# Altium schematic symbol library Sensor_Touch.SchLib: 24 symbols
Pins are listed as number, name and electrical type; pins without a type are passive.

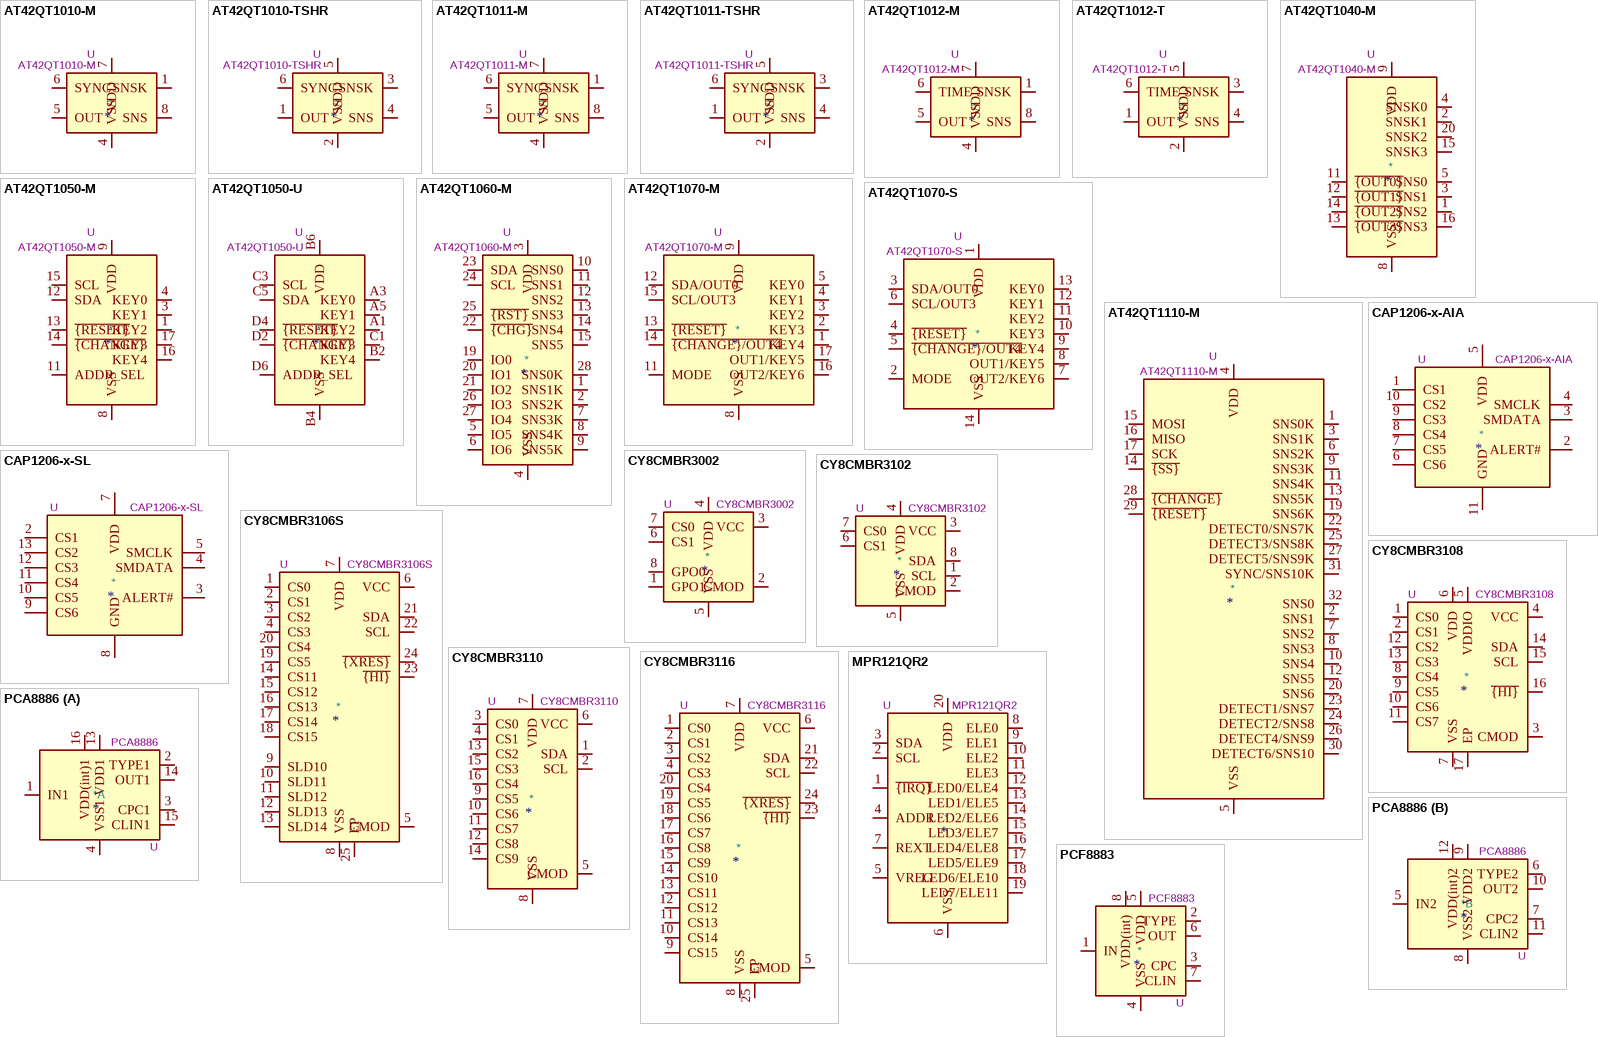
[diagram p0: symbols AT42QT1010-M to PCF8883]

## AT42QT1010-M
designator *  value AT42QT1010-M  Reference: U
ki_keywords: Touch QTouch Sensor Key; ki_description: Single-key Touch Sensor, UDFN-8; ki_fp_filters: DFN*1EP*2x2mm*P0.5mm*; Footprint: Package_DFN_QFN:DFN-8-1EP_2x2mm_P0.5mm_EP0.9x1.5mm; Datasheet: http://ww1.microchip.com/downloads/en/DeviceDoc/40001946A.pdf
pins: 1 SNSK, 2 NC hidden, 3 NC hidden, 4 VSS, 5 OUT, 6 SYNC, 7 VDD, 8 SNS, 9 VSS hidden

## AT42QT1010-TSHR
designator *  value AT42QT1010-TSHR  Reference: U
ki_keywords: Touch QTouch Sensor Key; ki_description: Single-key Touch Sensor, SOT-23-6; ki_fp_filters: SOT?23*; Footprint: Package_TO_SOT_SMD:SOT-23-6; Datasheet: http://ww1.microchip.com/downloads/en/DeviceDoc/40001946A.pdf
pins: 1 OUT, 2 VSS, 3 SNSK, 4 SNS, 5 VDD, 6 SYNC

## AT42QT1011-M
designator *  value AT42QT1011-M  Reference: U
ki_keywords: Touch QTouch Sensor Key; ki_description: Single-key Touch Sensor, UDFN-8; ki_fp_filters: DFN*1EP*2x2mm*P0.5mm*; Footprint: Package_DFN_QFN:DFN-8-1EP_2x2mm_P0.5mm_EP0.9x1.5mm; Datasheet: http://ww1.microchip.com/downloads/en/DeviceDoc/40001947A.pdf
pins: 1 SNSK, 2 NC hidden, 3 NC hidden, 4 VSS, 5 OUT, 6 SYNC, 7 VDD, 8 SNS, 9 VSS hidden

## AT42QT1011-TSHR
designator *  value AT42QT1011-TSHR  Reference: U
ki_keywords: Touch QTouch Sensor Key; ki_description: Single-key Touch Sensor, SOT-23-6; ki_fp_filters: SOT?23*; Footprint: Package_TO_SOT_SMD:SOT-23-6; Datasheet: http://ww1.microchip.com/downloads/en/DeviceDoc/40001947A.pdf
pins: 1 OUT, 2 VSS, 3 SNSK, 4 SNS, 5 VDD, 6 SYNC

## AT42QT1012-M
designator *  value AT42QT1012-M  Reference: U
ki_keywords: Touch QTouch Sensor Key; ki_description: Single-Key Touch Sensor IC, UDFN-8; ki_fp_filters: DFN*1EP*2x2mm*P0.5mm*; Footprint: Package_DFN_QFN:DFN-8-1EP_2x2mm_P0.5mm_EP0.9x1.5mm; Datasheet: http://ww1.microchip.com/downloads/en/DeviceDoc/40001948A.pdf
pins: 1 SNSK, 2 NC hidden, 3 NC hidden, 4 VSS, 5 OUT, 6 TIME, 7 VDD, 8 SNS, 9 VSS hidden

## AT42QT1012-T
designator *  value AT42QT1012-T  Reference: U
ki_keywords: Touch QTouch Sensor Key; ki_description: Single-Key Touch Sensor IC, SOT-23-6; ki_fp_filters: SOT?23*; Footprint: Package_TO_SOT_SMD:SOT-23-6; Datasheet: http://ww1.microchip.com/downloads/en/DeviceDoc/40001948A.pdf
pins: 1 OUT, 2 VSS, 3 SNSK, 4 SNS, 5 VDD, 6 TIME

## AT42QT1040-M
designator *  value AT42QT1040-M  Reference: U
ki_keywords: Touch QTouch Sensor Key; ki_description: Four-key Touch Sensor IC, VQFN-20; ki_fp_filters: VQFN*1EP*3x3mm*P0.45mm*; Footprint: Package_DFN_QFN:VQFN-20-1EP_3x3mm_P0.45mm_EP1.55x1.55mm; Datasheet: http://ww1.microchip.com/downloads/en/DeviceDoc/Atmel-9524-AT42-QTouch-BSW-AT42QT1040_Datasheet.pdf
pins: 1 SNS2, 2 SNSK1, 3 SNS1, 4 SNSK0, 5 SNS0, 6 NC hidden, 7 NC hidden, 8 VSS, 9 VDD, 10 NC hidden, 11 ~{{OUT0}}, 12 ~{{OUT1}}, 13 ~{{OUT3}}, 14 ~{{OUT2}}, 15 SNSK3, 16 SNS3, 17 NC hidden, 18 NC hidden, 19 NC hidden, 20 SNSK2, 21 VSS hidden

## AT42QT1050-M
designator *  value AT42QT1050-M  Reference: U
ki_keywords: Touch QTouch Sensor Key; ki_description: Five-Key Touch Sensor, VQFN-20; ki_fp_filters: VQFN*1EP*3x3mm*P0.45mm*; Footprint: Package_DFN_QFN:VQFN-20-1EP_3x3mm_P0.45mm_EP1.55x1.55mm; Datasheet: http://ww1.microchip.com/downloads/en/DeviceDoc/Atmel-9707-AT42-QTouch-BSW-AT42QT1050_Datasheet.pdf
pins: 1 KEY2, 2 NC hidden, 3 KEY1, 4 KEY0, 5 NC hidden, 6 NC hidden, 7 NC hidden, 8 VSS, 9 VDD, 10 NC hidden, 11 ADDR_SEL, 12 SDA, 13 ~{{RESET}}, 14 ~{{CHANGE}}, 15 SCL, 16 KEY4, 17 KEY3, 18 NC hidden, 19 NC hidden, 20 NC hidden, 21 VSS hidden

## AT42QT1050-U
designator *  value AT42QT1050-U  Reference: U
ki_keywords: Touch QTouch Sensor Key; ki_description: Five-Key Touch Sensor, WLCSP-12; ki_fp_filters: WLCSP*1.403x1.555mm*P0.4mm*; Footprint: Package_CSP:WLCSP-12_1.403x1.555mm_P0.4mm_Stagger; Datasheet: http://ww1.microchip.com/downloads/en/DeviceDoc/Atmel-9707-AT42-QTouch-BSW-AT42QT1050_Datasheet.pdf
pins: A1 KEY2, A3 KEY0, A5 KEY1, B2 KEY4, B4 VSS, B6 VDD, C1 KEY3, C3 SCL, C5 SDA, D2 ~{{CHANGE}}, D4 ~{{RESET}}, D6 ADDR_SEL

## AT42QT1060-M
designator *  value AT42QT1060-M  Reference: U
ki_keywords: Touch QTouch Sensor Key; ki_description: Six-Key Touch Sensor IC, VQFN-28; ki_fp_filters: VQFN*1EP*4x4mm*P0.45mm*; Footprint: Package_DFN_QFN:VQFN-28-1EP_4x4mm_P0.45mm_EP2.4x2.4mm; Datasheet: http://ww1.microchip.com/downloads/en/DeviceDoc/Atmel-9505-AT42-QTouch-BSW-AT42QT1060_Datasheet.pdf
pins: 1 SNS1K, 2 SNS2K, 3 VDD, 4 VSS, 5 IO5, 6 IO6, 7 SNS3K, 8 SNS4K, 9 SNS5K, 10 SNS0, 11 SNS1, 12 SNS2, 13 SNS3, 14 SNS4, 15 SNS5, 16 VDD hidden, 17 VDD hidden, 18 VSS hidden, 19 IO0, 20 IO1, 21 IO2, 22 ~{{CHG}}, 23 SDA, 24 SCL, 25 ~{{RST}}, 26 IO3, 27 IO4, 28 SNS0K, 29 VSS hidden

## AT42QT1070-M
designator *  value AT42QT1070-M  Reference: U
ki_keywords: Touch QTouch Sensor Key; ki_description: Seven-key Touch Sensor IC, VQFN-20; ki_fp_filters: VQFN*1EP*3x3mm*P0.45mm*; Footprint: Package_DFN_QFN:VQFN-20-1EP_3x3mm_P0.45mm_EP1.55x1.55mm; Datasheet: http://ww1.microchip.com/downloads/en/DeviceDoc/Atmel-9596-AT42-QTouch-BSW-AT42QT1070_Datasheet.pdf
pins: 1 KEY4, 2 KEY3, 3 KEY2, 4 KEY1, 5 KEY0, 6 NC hidden, 7 NC hidden, 8 VSS, 9 VDD, 10 NC hidden, 11 MODE, 12 SDA/OUT0, 13 ~{{RESET}}, 14 ~{{CHANGE}/OUT4}, 15 SCL/OUT3, 16 OUT2/KEY6, 17 OUT1/KEY5, 18 NC hidden, 19 NC hidden, 20 NC hidden, 21 VSS hidden

## AT42QT1070-S
designator *  value AT42QT1070-S  Reference: U
ki_keywords: Touch QTouch Sensor Key; ki_description: Seven-key Touch Sensor IC, SOIC-14; ki_fp_filters: SOIC*3.9x8.7mm*P1.27mm*; Footprint: Package_SO:SOIC-14_3.9x8.7mm_P1.27mm; Datasheet: http://ww1.microchip.com/downloads/en/DeviceDoc/Atmel-9596-AT42-QTouch-BSW-AT42QT1070_Datasheet.pdf
pins: 1 VDD, 2 MODE, 3 SDA/OUT0, 4 ~{{RESET}}, 5 ~{{CHANGE}/OUT4}, 6 SCL/OUT3, 7 OUT2/KEY6, 8 OUT1/KEY5, 9 KEY4, 10 KEY3, 11 KEY2, 12 KEY1, 13 KEY0, 14 VSS

## AT42QT1110-M
designator *  value AT42QT1110-M  Reference: U
ki_keywords: Touch QTouch Sensor Key; ki_description: 11-Key Touch Sensor IC, VQFN-32; ki_fp_filters: VQFN*1EP*5x5mm*P0.5mm*; Footprint: Package_DFN_QFN:VQFN-32-1EP_5x5mm_P0.5mm_EP3.1x3.1mm; Datasheet: http://ww1.microchip.com/downloads/en/DeviceDoc/Atmel-9520-AT42-QTouch-BSW-AT42QT1110_Datasheet.pdf
pins: 1 SNS0K, 2 SNS1, 3 SNS1K, 4 VDD, 5 VSS, 6 SNS2K, 7 SNS2, 8 SNS3, 9 SNS3K, 10 SNS4, 11 SNS4K, 12 SNS5, 13 SNS5K, 14 ~{{SS}}, 15 MOSI, 16 MISO, 17 SCK, 18 VDD hidden, 19 SNS6K, 20 SNS6, 21 VSS hidden, 22 DETECT0/SNS7K, 23 DETECT1/SNS7, 24 DETECT2/SNS8, 25 DETECT3/SNS8K, 26 DETECT4/SNS9, 27 DETECT5/SNS9K, 28 ~{{CHANGE}}, 29 ~{{RESET}}, 30 DETECT6/SNS10, 31 SYNC/SNS10K, 32 SNS0, 33 VSS hidden

## CAP1206-x-AIA
designator *  value CAP1206-x-AIA  Reference: U
ki_keywords: 6 Channel Capacitive Touch Sensor; ki_description: 6-Channel Capacitive Touch Sensor, DFN-10; ki_fp_filters: DFN*1EP*3x3mm*P0.5mm*; Footprint: Package_DFN_QFN:DFN-10-1EP_3x3mm_P0.5mm_EP1.55x2.48mm; Datasheet: http://ww1.microchip.com/downloads/en/DeviceDoc/00001567B.pdf
pins: 1 CS1, 2 ALERT#, 3 SMDATA, 4 SMCLK, 5 VDD, 6 CS6, 7 CS5, 8 CS4, 9 CS3, 10 CS2, 11 GND

## CAP1206-x-SL
designator *  value CAP1206-x-SL  Reference: U
ki_keywords: 6 Channel Capacitive Touch Sensor; ki_description: 6-Channel Capacitive Touch Sensor, SOIC-14; ki_fp_filters: SOIC?14*3.9x8.7mm*P1.27mm*; Footprint: Package_SO:SOIC-14_3.9x8.7mm_P1.27mm; Datasheet: http://ww1.microchip.com/downloads/en/DeviceDoc/00001567B.pdf
pins: 2 CS1, 3 ALERT#, 4 SMDATA, 5 SMCLK, 7 VDD, 8 GND, 9 CS6, 10 CS5, 11 CS4, 12 CS3, 13 CS2

## CY8CMBR3002
designator *  value CY8CMBR3002  Reference: U
ki_keywords: Touch Sensor 2ch; ki_description: CapSense Controller, 2 Sensors, SOIC-8; ki_fp_filters: SOIC*3.9x4.9mm*P1.27mm*; Footprint: Package_SO:SOIC-8_3.9x4.9mm_P1.27mm; Datasheet: http://www.cypress.com/?docID=49119
pins: 1 GPO1, 2 CMOD, 3 VCC, 4 VDD, 5 VSS, 6 CS1, 7 CS0, 8 GPO0

## CY8CMBR3102
designator *  value CY8CMBR3102  Reference: U
ki_keywords: Touch Sensor 2ch; ki_description: CapSense Controller, 2 Sensors, SOIC-8; ki_fp_filters: SOIC*3.9x4.9mm*P1.27mm*; Footprint: Package_SO:SOIC-8_3.9x4.9mm_P1.27mm; Datasheet: http://www.cypress.com/?docID=49119
pins: 1 SCL, 2 CMOD, 3 VCC, 4 VDD, 5 VSS, 6 CS1, 7 CS0, 8 SDA

## CY8CMBR3106S
designator *  value CY8CMBR3106S  Reference: U
ki_keywords: Touch Sensor 16ch Slider; ki_description: CapSense Controller, 16 Sensors w/ Slider, QFN-24+EP; ki_fp_filters: QFN*1EP*4x4mm*P0.5mm*; Footprint: Package_DFN_QFN:QFN-24-1EP_4x4mm_P0.5mm_EP2.6x2.6mm; Datasheet: http://www.cypress.com/?docID=49119
pins: 1 CS0, 2 CS1, 3 CS2, 4 CS3, 5 CMOD, 6 VCC, 7 VDD, 8 VSS, 9 SLD10, 10 SLD11, 11 SLD12, 12 SLD13, 13 SLD14, 14 CS11, 15 CS12, 16 CS13, 17 CS14, 18 CS15, 19 CS5, 20 CS4, 21 SDA, 22 SCL, 23 ~{{HI}}, 24 ~{{XRES}}, 25 EP

## CY8CMBR3108
designator *  value CY8CMBR3108  Reference: U
ki_keywords: Touch Sensor 8ch; ki_description: CapSense Controller, 8 Sensors, QFN-16+EP; ki_fp_filters: QFN*1EP*3x3mm*P0.5mm*; Footprint: Package_DFN_QFN:QFN-16-1EP_3x3mm_P0.5mm_EP1.8x1.8mm; Datasheet: http://www.cypress.com/?docID=49119
pins: 1 CS0, 2 CS1, 3 CMOD, 4 VCC, 5 VDDIO, 6 VDD, 7 VSS, 8 CS4, 9 CS5, 10 CS6, 11 CS7, 12 CS2, 13 CS3, 14 SDA, 15 SCL, 16 ~{{HI}}, 17 EP

## CY8CMBR3110
designator *  value CY8CMBR3110  Reference: U
ki_keywords: Touch Sensor 10ch; ki_description: CapSense Controller, 10 Sensors, SOIC-16; ki_fp_filters: SOIC*3.9x9.9mm*P1.27mm*; Footprint: Package_SO:SOIC-16_3.9x9.9mm_P1.27mm; Datasheet: http://www.cypress.com/?docID=49119
pins: 1 SDA, 2 SCL, 3 CS0, 4 CS1, 5 CMOD, 6 VCC, 7 VDD, 8 VSS, 9 CS5, 10 CS6, 11 CS7, 12 CS8, 13 CS2, 14 CS9, 15 CS3, 16 CS4

## CY8CMBR3116
designator *  value CY8CMBR3116  Reference: U
ki_keywords: Touch Sensor 16ch; ki_description: CapSense Controller, 16 Sensors, QFN-24+EP; ki_fp_filters: QFN*1EP*4x4mm*P0.5mm*; Footprint: Package_DFN_QFN:QFN-24-1EP_4x4mm_P0.5mm_EP2.6x2.6mm; Datasheet: http://www.cypress.com/?docID=49119
pins: 1 CS0, 2 CS1, 3 CS2, 4 CS3, 5 CMOD, 6 VCC, 7 VDD, 8 VSS, 9 CS15, 10 CS14, 11 CS13, 12 CS12, 13 CS11, 14 CS10, 15 CS9, 16 CS8, 17 CS7, 18 CS6, 19 CS5, 20 CS4, 21 SDA, 22 SCL, 23 ~{{HI}}, 24 ~{{XRES}}, 25 EP

## MPR121QR2
designator *  value MPR121QR2  Reference: U
ki_keywords: Touch Sensor 12ch; ki_description: 12ch Touch Sensor controller, UQFN-20; ki_fp_filters: UQFN*3x3mm*P0.4mm*; Footprint: Package_DFN_QFN:UQFN-20_3x3mm_P0.4mm; Datasheet: https://resurgentsemi.com/wp-content/uploads/2018/09/MPR121_rev5-Resurgent.pdf?d453f8&d453f8
pins: 1 ~{{IRQ}}, 2 SCL, 3 SDA, 4 ADDR, 5 VREG, 6 VSS, 7 REXT, 8 ELE0, 9 ELE1, 10 ELE2, 11 ELE3, 12 LED0/ELE4, 13 LED1/ELE5, 14 LED2/ELE6, 15 LED3/ELE7, 16 LED4/ELE8, 17 LED5/ELE9, 18 LED6/ELE10, 19 LED7/ELE11, 20 VDD

## PCA8886
designator *  value PCA8886  Reference: U
ki_keywords: NXP capacitive touch sensor auto-calibration; ki_description: Dual capacitive touch/proximity switch with auto-calibration, TSSOP-16; ki_fp_filters: TSSOP*4.4x5mm*P0.65mm*; Footprint: Package_SO:TSSOP-16_4.4x5mm_P0.65mm; Datasheet: http://www.nxp.com/docs/en/data-sheet/PCA8886.pdf
part A pins: 1 IN1, 2 TYPE1, 3 CPC1, 4 VSS1, 13 VDD1, 14 OUT1, 15 CLIN1, 16 VDD(int)1
part B pins: 5 IN2, 6 TYPE2, 7 CPC2, 8 VSS2, 9 VDD2, 10 OUT2, 11 CLIN2, 12 VDD(int)2

## PCF8883
designator *  value PCF8883  Reference: U
ki_keywords: NXP capacitive touch sensor auto-calibration; ki_description: Capacitive touch/proximity switch with auto-calibration, SOIC-8/WLCSP-8; ki_fp_filters: SOIC*3.9x4.9mm*P1.27mm* NXP*WLCSP*PCF8883*; Datasheet: http://www.nxp.com/docs/en/data-sheet/PCF8883.pdf
pins: 1 IN, 2 TYPE, 3 CPC, 4 VSS, 5 VDD, 6 OUT, 7 CLIN, 8 VDD(int)